# EAGLE library part SN74LVC8T245 (library Radicon)
SN74LVC8T245 8-BIT DUAL-SUPPLY BUS TRANSCEIVER WITH CONFIGURABLE VOLTAGE TRANSLATION AND 3-STATE OUTPUTS
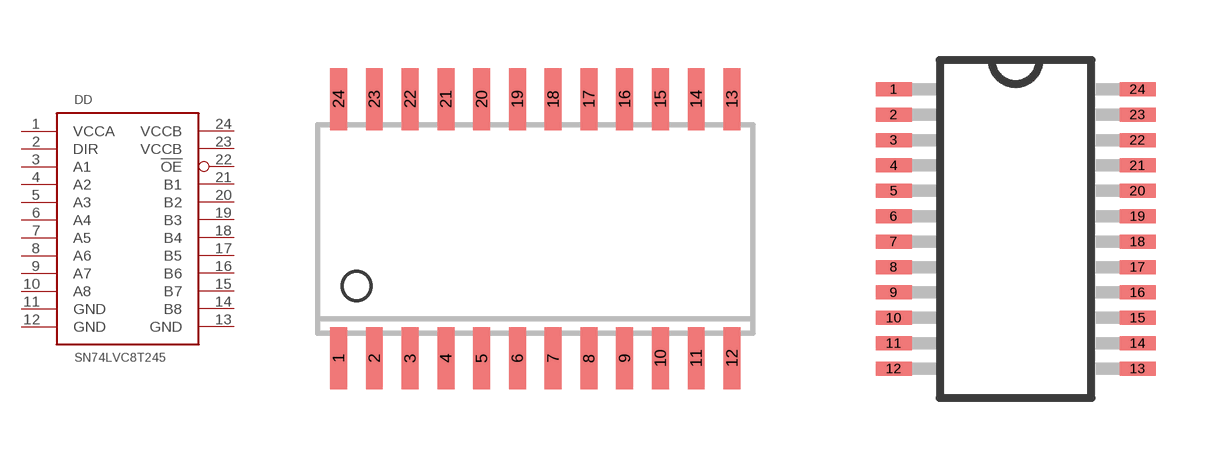
[diagram p36: symbol with the pads of SO24W; footprints SO24W, SSOP-24AD]

Designator prefix DD

## SN74LVC8T245NS  [SO24W]
1  VCCA
2  DIR
3  A1
4  A2
5  A3
6  A4
7  A5
8  A6
9  A7
10  A8
11  GND
12  GND
13  GND
14  B8
15  B7
16  B6
17  B5
18  B4
19  B3
20  B2
21  B1
22  !OE
23  VCCB
24  VCCB

## SN74LVC8T245DB  [SSOP-24AD]
Pads as for SO24W

## Footprint SO24W (pad centres in mm)
smd 0.6 x 2.2: 1 -6.985,-4.6; 2 -5.715,-4.6; 3 -4.445,-4.6; 4 -3.175,-4.6; 5 -1.905,-4.6; 6 -0.635,-4.6; 7 0.635,-4.6; 8 1.905,-4.6; 9 3.175,-4.6; 10 4.445,-4.6; 11 5.715,-4.6; 12 6.985,-4.6; 13 6.985,4.6; 14 5.715,4.6; 15 4.445,4.6; 16 3.175,4.6; 17 1.905,4.6; 18 0.635,4.6; 19 -0.635,4.6; 20 -1.905,4.6; 21 -3.175,4.6; 22 -4.445,4.6; 23 -5.715,4.6; 24 -6.985,4.6

## Footprint SSOP-24AD (pad centres in mm)
SSOP-24AD Auto generated by make-symbol-device-package-bsdl.ulp Rev. 29
smd 0.9 x 0.35: 1 -3.05,3.493; 2 -3.05,2.857; 3 -3.05,2.223; 4 -3.05,1.587; 5 -3.05,0.953; 6 -3.05,0.318; 7 -3.05,-0.318; 8 -3.05,-0.953; 9 -3.05,-1.587; 10 -3.05,-2.223; 11 -3.05,-2.857; 12 -3.05,-3.493; 13 3.05,-3.493; 14 3.05,-2.857; 15 3.05,-2.223; 16 3.05,-1.587; 17 3.05,-0.953; 18 3.05,-0.318; 19 3.05,0.318; 20 3.05,0.953; 21 3.05,1.587; 22 3.05,2.223; 23 3.05,2.857; 24 3.05,3.493